# Altium footprint library Diode_Vishay_General_Semiconductor_V8PAL50-M3-I_eec_0.PcbLib: 1 footprints
Each footprint in its own frame and in the unit in brackets; x right, y up, seen from the top. Pads: shape width x height; smd on the part's side, far side on the other; paste and mask are expansions set on the pad; w line width, h text height; cw(c..) or ccw(c..) is an arc to the next point about the centre after c.
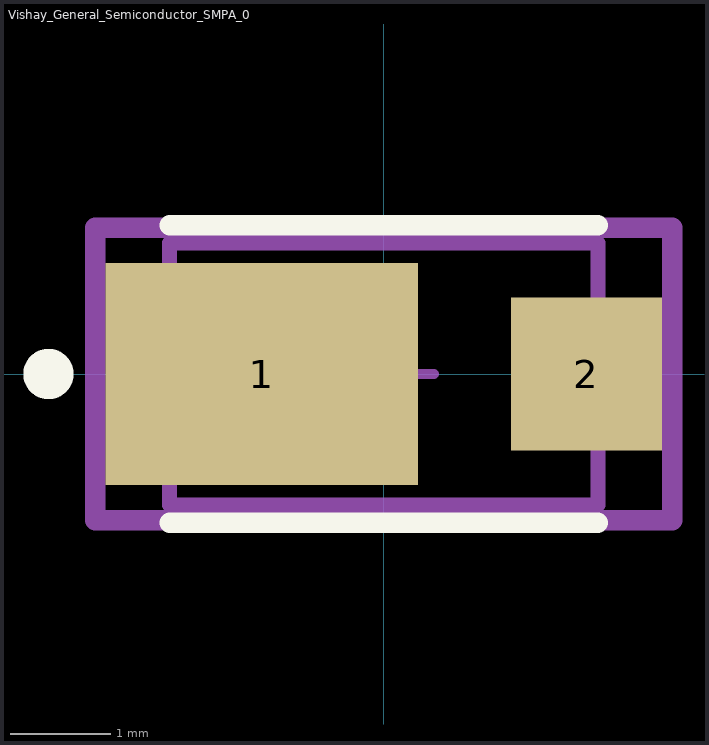
[diagram p0: the footprint, top view; thin cyan lines are the x and y axes]

## Vishay_General_Semiconductor_SMPA_0 [mm]
pads (2):
  rect 3.1x2.2 smd paste+0 mask+0: 1(-1.21,0)
  rect 1.5x1.52 smd paste+0 mask+0: 2(2.01,0)
Top Overlay:
  circle w0.25: c-3.325,0 r0.125
  lines w0.2: -2.125,-1.475 2.125,-1.475 ; -2.125,1.475 2.125,1.475
Mechanical 10:
  lines w0.2: -2.86,-1.45 2.86,-1.45 2.86,1.45 -2.86,1.45 -2.86,-1.45
  text ".Designator" at 0,0 h1
Mechanical 12:
  lines w0.15: -2.125,-1.3 2.125,-1.3 2.125,1.3 -2.125,1.3 -2.125,-1.3
Mechanical 15:
  lines w0.1: -0.5,0 0.5,0 ; 0,-0.5 0,0.5
  lines w0.2: -2.86,-1.45 2.86,-1.45 2.86,1.45 -2.86,1.45 -2.86,-1.45